# Altium footprint library LFCSP.PcbLib: 3 footprints
Each footprint in its own frame and in the unit in brackets; x right, y up, seen from the top. Pads: shape width x height; smd on the part's side, far side on the other; paste and mask are expansions set on the pad; w line width, h text height; cw(c..) or ccw(c..) is an arc to the next point about the centre after c.
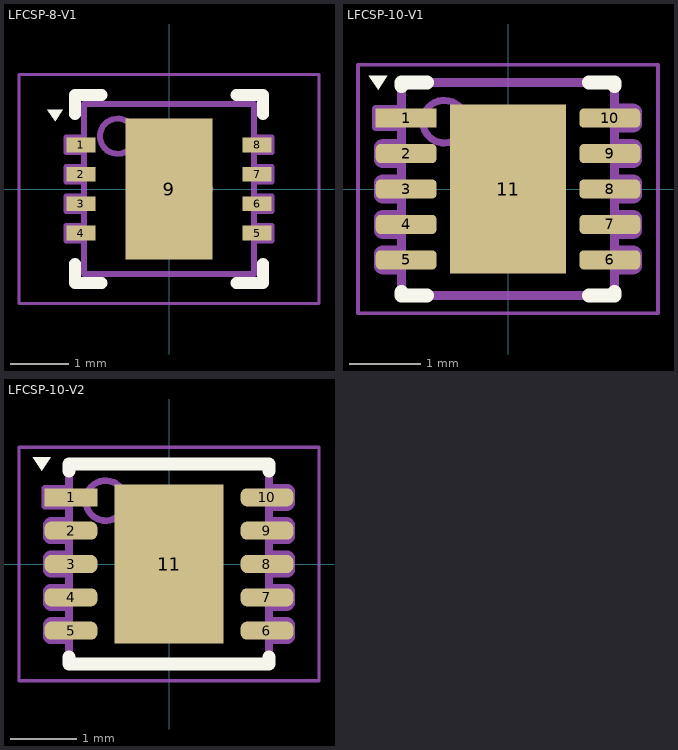
[diagram p0: the footprints below, top view; thin cyan lines are the x and y axes]

## LFCSP-8-V1 [mm]
height 0.8
pads (9):
  rect 0.5x0.25 smd: 1(-1.5,0.75) 2(-1.5,0.25) 3(-1.5,-0.25) 4(-1.5,-0.75) 5(1.5,-0.75) 6(1.5,-0.25) 7(1.5,0.25) 8(1.5,0.75)
  rect 1.49x2.4 smd: 9(0,0)
Top Overlay:
  region: -1.806,1.35 -2.07,1.35 -1.938,1.152
  lines w0.2: -1.6,-1.275 -1.6,-1.6 -1.145,-1.6 ; -1.6,1.275 -1.6,1.6 -1.145,1.6 ; 1.145,-1.6 1.6,-1.6 1.6,-1.275 ; 1.145,1.6 1.6,1.6 1.6,1.275
Top Solder:
  rectangle: -1.85,-0.975 1.9,0.975
Top Assembly:
  circle w0.1: c-0.875,0.9 r0.3
  lines w0.1: -1.5,-0.875 -1.75,-0.875 -1.75,-0.625 -1.5,-0.625 ; -1.5,-0.375 -1.75,-0.375 -1.75,-0.125 -1.5,-0.125 ; -1.5,0.125 -1.75,0.125 -1.75,0.375 -1.5,0.375 ; -1.5,0.625 -1.75,0.625 -1.75,0.875 -1.5,0.875 ; 1.5,-0.875 1.75,-0.875 1.75,-0.625 1.5,-0.625 ; 1.5,-0.375 1.75,-0.375 1.75,-0.125 1.5,-0.125 ; 1.5,0.125 1.75,0.125 1.75,0.375 1.5,0.375 ; 1.5,0.625 1.75,0.625 1.75,0.875 1.5,0.875 ; -1.45,-1.45 -1.45,1.45 1.45,1.45 1.45,-1.45 -1.45,-1.45
Top Component Outline:
  lines w0.05: -2.555,-1.95 2.555,-1.95 2.555,1.95 -2.555,1.95 -2.555,-1.95
Top Component Center:
  circle w0.1: c0,0 r0.5
  lines w0.1: -0.686,0 0.711,0 ; -0.001,-0.706 -0.001,0.691
3D body "SON50P300X80_HS-9M.step": height 0.8, standoff 0, extent -1.53,-1.45 1.53,1.45

## LFCSP-10-V1 [mm]
pads (11):
  rect 0.86x0.27 smd mask+0.05: 1(-1.435,1)
  rrect50% 0.86x0.27 smd mask+0.05: 2(-1.435,0.5) 3(-1.435,0) 4(-1.435,-0.5) 5(-1.435,-1) 6(1.435,-1) 7(1.435,-0.5) 8(1.435,0) 9(1.435,0.5) 10(1.435,1)
  rect 1.64x2.38 smd paste-2 mask+0.05: 11(0,0)
Top Overlay:
  region: -1.7,1.6 -1.964,1.6 -1.832,1.402
  lines w0.2: -1.5,-1.455 -1.5,-1.5 -1.14,-1.5 ; -1.5,1.455 -1.5,1.5 -1.14,1.5 ; 1.14,-1.5 1.5,-1.5 1.5,-1.455 ; 1.14,1.5 1.5,1.5 1.5,1.455
Top Paste:
  region: 0.519,-0.753 -0.519,-0.753 -0.519,0.753 0.519,0.753
Top Solder:
  rectangle: -1.925,-1.194 1.925,1.194
Top Assembly:
  circle w0.1: c-0.9,0.95 r0.3
  lines w0.1: -1.515,0.865 -1.865,0.865 -1.865,1.135 -1.515,1.135 ; -1.5,-1.152 -1.765,-1.152 cw(c-1.765,-1.076) -1.841,-1.076 -1.841,-0.924 cw(c-1.765,-0.924) -1.765,-0.848 -1.5,-0.848 ; -1.5,-0.652 -1.765,-0.652 cw(c-1.765,-0.576) -1.841,-0.576 -1.841,-0.424 cw(c-1.765,-0.424) -1.765,-0.348 -1.5,-0.348 ; -1.5,-0.152 -1.765,-0.152 cw(c-1.765,-0.076) -1.841,-0.076 -1.841,0.076 cw(c-1.765,0.076) -1.765,0.152 -1.5,0.152 ; -1.5,0.348 -1.765,0.348 cw(c-1.765,0.424) -1.841,0.424 -1.841,0.576 cw(c-1.765,0.576) -1.765,0.652 -1.5,0.652 ; 1.5,-1.152 1.765,-1.152 ccw(c1.765,-1.076) 1.841,-1.076 1.841,-0.924 ccw(c1.765,-0.924) 1.765,-0.848 1.5,-0.848 ; 1.5,-0.652 1.765,-0.652 ccw(c1.765,-0.576) 1.841,-0.576 1.841,-0.424 ccw(c1.765,-0.424) 1.765,-0.348 1.5,-0.348 ; 1.5,-0.152 1.765,-0.152 ccw(c1.765,-0.076) 1.841,-0.076 1.841,0.076 ccw(c1.765,0.076) 1.765,0.152 1.5,0.152 ; 1.5,0.348 1.765,0.348 ccw(c1.765,0.424) 1.841,0.424 1.841,0.576 ccw(c1.765,0.576) 1.765,0.652 1.5,0.652 ; 1.5,0.848 1.765,0.848 ccw(c1.765,0.924) 1.841,0.924 1.841,1.076 ccw(c1.765,1.076) 1.765,1.152 1.5,1.152
  lines w0.127: -1.5,-1.5 1.5,-1.5 1.5,1.5 -1.5,1.5 -1.5,-1.5
Top Component Outline:
  lines w0.05: -2.115,-1.75 2.115,-1.75 2.115,1.75 -2.115,1.75 -2.115,-1.75
Top Component Center:
  circle w0.1: c0,0 r0.5
  lines w0.1: -0.686,0 0.711,0 ; -0.001,-0.706 -0.001,0.691
3D body "step_temp.STEP": height 0.85, standoff 0, extent -1.5,-1.5 1.5,1.5

## LFCSP-10-V2 [mm]
pads (11):
  rect 0.79x0.27 smd: 1(-1.47,1)
  rrect70% 0.79x0.27 smd: 2(-1.47,0.5) 3(-1.47,0) 4(-1.47,-0.5) 5(-1.47,-1) 6(1.47,-1) 7(1.47,-0.5) 8(1.47,0) 9(1.47,0.5) 10(1.47,1)
  rect 1.64x2.38 smd paste-2: 11(0,0)
Top Overlay:
  region: -1.776,1.6 -2.04,1.6 -1.908,1.402
  lines w0.2: -1.5,-1.4 -1.5,-1.5 1.5,-1.5 1.5,-1.4 ; -1.5,1.4 -1.5,1.5 1.5,1.5 1.5,1.4
Top Paste:
  region: 0.635,0.095 0.095,0.095 0.095,1.005 0.635,1.005
  region: -0.095,-1.007 -0.636,-1.007 -0.636,-0.095 -0.095,-0.095
  region: 0.635,-1.007 0.095,-1.007 0.095,-0.095 0.635,-0.095
  region: -0.095,0.095 -0.637,0.095 -0.637,1.005 -0.095,1.005
Top Solder:
  rectangle: -1.975,-1.25 1.975,1.25
Top Assembly:
  circle w0.1: c-0.95,0.95 r0.3
  lines w0.1: -1.515,0.865 -1.865,0.865 -1.865,1.135 -1.515,1.135 ; -1.5,-1.152 -1.765,-1.152 cw(c-1.765,-1.076) -1.841,-1.076 -1.841,-0.924 cw(c-1.765,-0.924) -1.765,-0.848 -1.5,-0.848 ; -1.5,-0.652 -1.765,-0.652 cw(c-1.765,-0.576) -1.841,-0.576 -1.841,-0.424 cw(c-1.765,-0.424) -1.765,-0.348 -1.5,-0.348 ; -1.5,-0.152 -1.765,-0.152 cw(c-1.765,-0.076) -1.841,-0.076 -1.841,0.076 cw(c-1.765,0.076) -1.765,0.152 -1.5,0.152 ; -1.5,0.348 -1.765,0.348 cw(c-1.765,0.424) -1.841,0.424 -1.841,0.576 cw(c-1.765,0.576) -1.765,0.652 -1.5,0.652 ; 1.5,-1.152 1.765,-1.152 ccw(c1.765,-1.076) 1.841,-1.076 1.841,-0.924 ccw(c1.765,-0.924) 1.765,-0.848 1.5,-0.848 ; 1.5,-0.652 1.765,-0.652 ccw(c1.765,-0.576) 1.841,-0.576 1.841,-0.424 ccw(c1.765,-0.424) 1.765,-0.348 1.5,-0.348 ; 1.5,-0.152 1.765,-0.152 ccw(c1.765,-0.076) 1.841,-0.076 1.841,0.076 ccw(c1.765,0.076) 1.765,0.152 1.5,0.152 ; 1.5,0.348 1.765,0.348 ccw(c1.765,0.424) 1.841,0.424 1.841,0.576 ccw(c1.765,0.576) 1.765,0.652 1.5,0.652 ; 1.5,0.848 1.765,0.848 ccw(c1.765,0.924) 1.841,0.924 1.841,1.076 ccw(c1.765,1.076) 1.765,1.152 1.5,1.152
  lines w0.127: -1.5,-1.5 1.5,-1.5 1.5,1.5 -1.5,1.5 -1.5,-1.5
Top Component Outline:
  lines w0.05: -2.25,-1.75 2.25,-1.75 2.25,1.75 -2.25,1.75 -2.25,-1.75
Top Component Center:
  circle w0.1: c0,0 r0.5
  lines w0.1: -0.686,0 0.711,0 ; -0.001,-0.706 -0.001,0.691
3D body "step_temp.STEP": height 0.85, standoff 0, extent -1.5,-1.5 1.5,1.5